# EAGLE library part TTP223 (library mille-feuille)
1 KEY TOUCH PAD DETECTOR IC
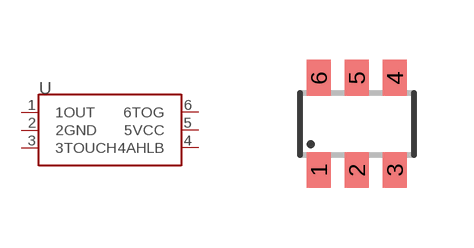
[diagram p47: symbol with the pads of SOT23-6; footprint SOT23-6]

Designator prefix U

## TTP223-BA6  [SOT23-6]
1  1OUT
2  2GND
3  3TOUCH
4  4AHLB
5  5VCC
6  6TOG

## Footprint SOT23-6 (pad centres in mm)
smd 0.6 x 0.9: 1 -0.95,-1.15; 2 0,-1.15; 3 0.95,-1.15; 4 0.95,1.15; 5 0,1.15; 6 -0.95,1.15